# Altium integrated library Altera Cyclone III.IntLib: 225 symbols (part 23 of 50)
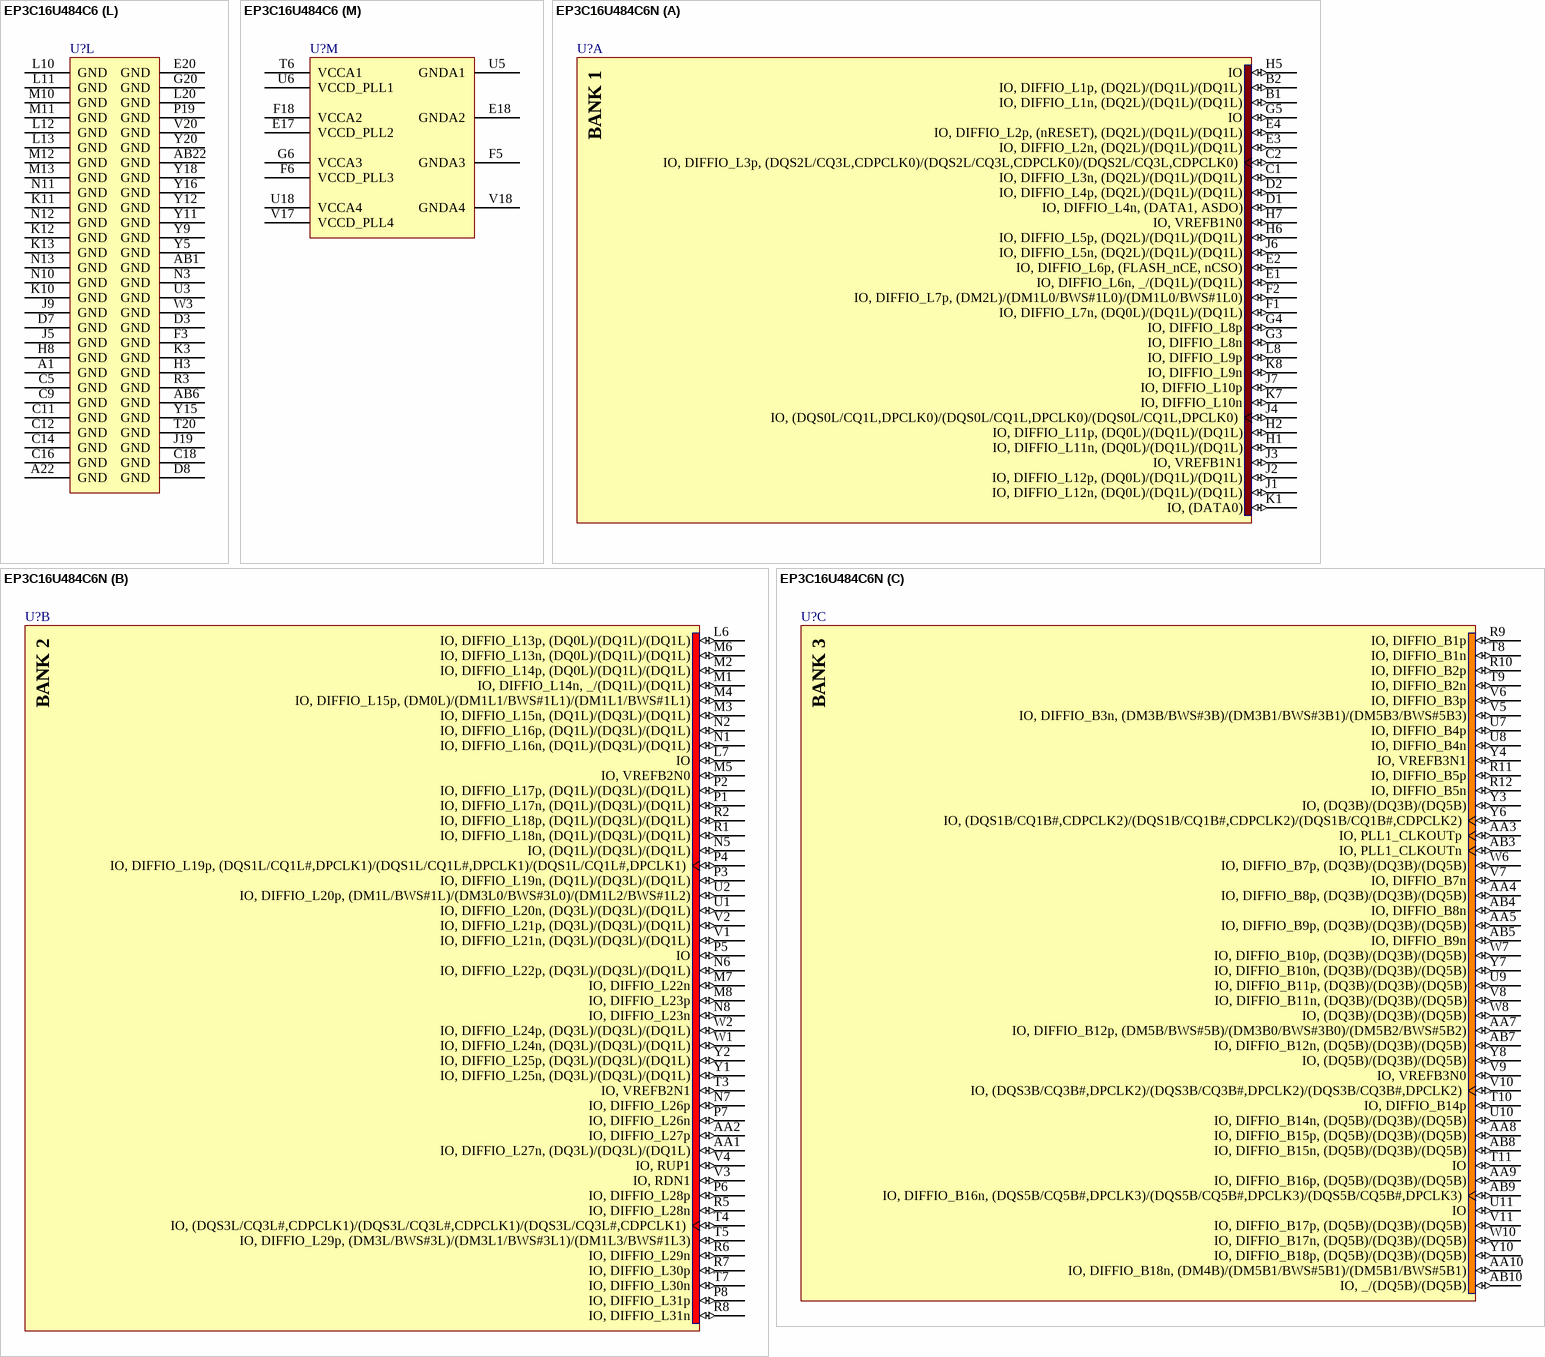
[diagram p512: symbols EP3C16U484C6 to EP3C16U484C6N]

## EP3C16U484C6
designator U?
Cyclone III Family FPGA, 346 I/O Pins, 4 PLLs, 484-Pin UFBGA, Speed Grade 6, Commercial Grade; Published: 14-Mar-2008; DatasheetVersion: ver2.0, May-2008; PackageVersion: ver15.4, Dec-2008; PackageReference: UBGA484; Publisher: Altium Limited; PackageDescription: 484-Ball Ultra FineLine Ball Grid Array (UFBGA484) - Wire Bond; Supplier 1: Digi-Key; Supplier Part Number 1: 544-2475-ND; ComponentLink1Description: Manufacturer Link; ComponentLink1URL: http://www.altera.com/; ComponentLink2Description: Handbook (7.86MB); ComponentLink2URL: http://www.altera.com/literature/hb/cyc3/cyclone3_handbook.pdf; ComponentLink3Description: Packaging Specification; ComponentLink3URL: http://www.altera.com/literature/ds/dspkg.pdf
footprint UBGA484 (BGA, 484-Leads, Body 19x19mm, Pitch 0.8mm)
3D model EP3C16-UBGA484 (484-Ball Ultra FineLine Ball Grid Array (UFBGA484) - Wire Bond)
signal-integrity model EP3C16_U484 (Cyclone III)
part A pins: B1 IO, DIFFIO_L1n, (DQ2L)/(DQ1L)/(DQ1L) (io), B2 IO, DIFFIO_L1p, (DQ2L)/(DQ1L)/(DQ1L) (io), C1 IO, DIFFIO_L3n, (DQ2L)/(DQ1L)/(DQ1L) (io), C2 IO, DIFFIO_L3p, (DQS2L/CQ3L,CDPCLK0)/(DQS2L/CQ3L,CDPCLK0)/(DQS2L/CQ3L,CDPCLK0) (io), D1 IO, DIFFIO_L4n, (DATA1, ASDO) (io), D2 IO, DIFFIO_L4p, (DQ2L)/(DQ1L)/(DQ1L) (io), E1 IO, DIFFIO_L6n, _/(DQ1L)/(DQ1L) (io), E2 IO, DIFFIO_L6p, (FLASH_nCE, nCSO) (io), E3 IO, DIFFIO_L2n, (DQ2L)/(DQ1L)/(DQ1L) (io), E4 IO, DIFFIO_L2p, (nRESET), (DQ2L)/(DQ1L)/(DQ1L) (io), F1 IO, DIFFIO_L7n, (DQ0L)/(DQ1L)/(DQ1L) (io), F2 IO, DIFFIO_L7p, (DM2L)/(DM1L0/BWS#1L0)/(DM1L0/BWS#1L0) (io), G3 IO, DIFFIO_L8n (io), G4 IO, DIFFIO_L8p (io), G5 IO (io), H1 IO, DIFFIO_L11n, (DQ0L)/(DQ1L)/(DQ1L) (io), H2 IO, DIFFIO_L11p, (DQ0L)/(DQ1L)/(DQ1L) (io), H5 IO (io), H6 IO, DIFFIO_L5p, (DQ2L)/(DQ1L)/(DQ1L) (io), H7 IO, VREFB1N0 (io), J1 IO, DIFFIO_L12n, (DQ0L)/(DQ1L)/(DQ1L) (io), J2 IO, DIFFIO_L12p, (DQ0L)/(DQ1L)/(DQ1L) (io), J3 IO, VREFB1N1 (io), J4 IO, (DQS0L/CQ1L,DPCLK0)/(DQS0L/CQ1L,DPCLK0)/(DQS0L/CQ1L,DPCLK0) (io), J6 IO, DIFFIO_L5n, (DQ2L)/(DQ1L)/(DQ1L) (io), J7 IO, DIFFIO_L10p (io), K1 IO, (DATA0) (io), K7 IO, DIFFIO_L10n (io), K8 IO, DIFFIO_L9n (io), L8 IO, DIFFIO_L9p (io)
part B pins: AA1 IO, DIFFIO_L27n, (DQ3L)/(DQ3L)/(DQ1L) (io), AA2 IO, DIFFIO_L27p (io), L6 IO, DIFFIO_L13p, (DQ0L)/(DQ1L)/(DQ1L) (io), L7 IO (io), M1 IO, DIFFIO_L14n, _/(DQ1L)/(DQ1L) (io), M2 IO, DIFFIO_L14p, (DQ0L)/(DQ1L)/(DQ1L) (io), M3 IO, DIFFIO_L15n, (DQ1L)/(DQ3L)/(DQ1L) (io), M4 IO, DIFFIO_L15p, (DM0L)/(DM1L1/BWS#1L1)/(DM1L1/BWS#1L1) (io), M5 IO, VREFB2N0 (io), M6 IO, DIFFIO_L13n, (DQ0L)/(DQ1L)/(DQ1L) (io), M7 IO, DIFFIO_L22n (io), M8 IO, DIFFIO_L23p (io), N1 IO, DIFFIO_L16n, (DQ1L)/(DQ3L)/(DQ1L) (io), N2 IO, DIFFIO_L16p, (DQ1L)/(DQ3L)/(DQ1L) (io), N5 IO, (DQ1L)/(DQ3L)/(DQ1L) (io), N6 IO, DIFFIO_L22p, (DQ3L)/(DQ3L)/(DQ1L) (io), N7 IO, DIFFIO_L26p (io), N8 IO, DIFFIO_L23n (io), P1 IO, DIFFIO_L17n, (DQ1L)/(DQ3L)/(DQ1L) (io), P2 IO, DIFFIO_L17p, (DQ1L)/(DQ3L)/(DQ1L) (io), P3 IO, DIFFIO_L19n, (DQ1L)/(DQ3L)/(DQ1L) (io), P4 IO, DIFFIO_L19p, (DQS1L/CQ1L#,DPCLK1)/(DQS1L/CQ1L#,DPCLK1)/(DQS1L/CQ1L#,DPCLK1) (io), P5 IO (io), P6 IO, DIFFIO_L28p (io), P7 IO, DIFFIO_L26n (io), P8 IO, DIFFIO_L31p (io), R1 IO, DIFFIO_L18n, (DQ1L)/(DQ3L)/(DQ1L) (io), R2 IO, DIFFIO_L18p, (DQ1L)/(DQ3L)/(DQ1L) (io), R5 IO, DIFFIO_L28n (io), R6 IO, DIFFIO_L29n (io), R7 IO, DIFFIO_L30p (io), R8 IO, DIFFIO_L31n (io), T3 IO, VREFB2N1 (io), T4 IO, (DQS3L/CQ3L#,CDPCLK1)/(DQS3L/CQ3L#,CDPCLK1)/(DQS3L/CQ3L#,CDPCLK1) (io), T5 IO, DIFFIO_L29p, (DM3L/BWS#3L)/(DM3L1/BWS#3L1)/(DM1L3/BWS#1L3) (io), T7 IO, DIFFIO_L30n (io), U1 IO, DIFFIO_L20n, (DQ3L)/(DQ3L)/(DQ1L) (io), U2 IO, DIFFIO_L20p, (DM1L/BWS#1L)/(DM3L0/BWS#3L0)/(DM1L2/BWS#1L2) (io), V1 IO, DIFFIO_L21n, (DQ3L)/(DQ3L)/(DQ1L) (io), V2 IO, DIFFIO_L21p, (DQ3L)/(DQ3L)/(DQ1L) (io), V3 IO, RDN1 (io), V4 IO, RUP1 (io), W1 IO, DIFFIO_L24n, (DQ3L)/(DQ3L)/(DQ1L) (io), W2 IO, DIFFIO_L24p, (DQ3L)/(DQ3L)/(DQ1L) (io), Y1 IO, DIFFIO_L25n, (DQ3L)/(DQ3L)/(DQ1L) (io), Y2 IO, DIFFIO_L25p, (DQ3L)/(DQ3L)/(DQ1L) (io)
part C pins: AA3 IO, PLL1_CLKOUTp (io), AA4 IO, DIFFIO_B8p, (DQ3B)/(DQ3B)/(DQ5B) (io), AA5 IO, DIFFIO_B9p, (DQ3B)/(DQ3B)/(DQ5B) (io), AA7 IO, DIFFIO_B12p, (DM5B/BWS#5B)/(DM3B0/BWS#3B0)/(DM5B2/BWS#5B2) (io), AA8 IO, DIFFIO_B15p, (DQ5B)/(DQ3B)/(DQ5B) (io), AA9 IO, DIFFIO_B16p, (DQ5B)/(DQ3B)/(DQ5B) (io), AA10 IO, DIFFIO_B18n, (DM4B)/(DM5B1/BWS#5B1)/(DM5B1/BWS#5B1) (io), AB3 IO, PLL1_CLKOUTn (io), AB4 IO, DIFFIO_B8n (io), AB5 IO, DIFFIO_B9n (io), AB7 IO, DIFFIO_B12n, (DQ5B)/(DQ3B)/(DQ5B) (io), AB8 IO, DIFFIO_B15n, (DQ5B)/(DQ3B)/(DQ5B) (io), AB9 IO, DIFFIO_B16n, (DQS5B/CQ5B#,DPCLK3)/(DQS5B/CQ5B#,DPCLK3)/(DQS5B/CQ5B#,DPCLK3) (io), AB10 IO, _/(DQ5B)/(DQ5B) (io), R9 IO, DIFFIO_B1p (io), R10 IO, DIFFIO_B2p (io), R11 IO, DIFFIO_B5p (io), R12 IO, DIFFIO_B5n (io), T8 IO, DIFFIO_B1n (io), T9 IO, DIFFIO_B2n (io), T10 IO, DIFFIO_B14p (io), T11 IO (io), U7 IO, DIFFIO_B4p (io), U8 IO, DIFFIO_B4n (io), U9 IO, DIFFIO_B11p, (DQ3B)/(DQ3B)/(DQ5B) (io), U10 IO, DIFFIO_B14n, (DQ5B)/(DQ3B)/(DQ5B) (io), U11 IO (io), V5 IO, DIFFIO_B3n, (DM3B/BWS#3B)/(DM3B1/BWS#3B1)/(DM5B3/BWS#5B3) (io), V6 IO, DIFFIO_B3p (io), V7 IO, DIFFIO_B7n (io), V8 IO, DIFFIO_B11n, (DQ3B)/(DQ3B)/(DQ5B) (io), V9 IO, VREFB3N0 (io), V10 IO, (DQS3B/CQ3B#,DPCLK2)/(DQS3B/CQ3B#,DPCLK2)/(DQS3B/CQ3B#,DPCLK2) (io), V11 IO, DIFFIO_B17p, (DQ5B)/(DQ3B)/(DQ5B) (io), W6 IO, DIFFIO_B7p, (DQ3B)/(DQ3B)/(DQ5B) (io), W7 IO, DIFFIO_B10p, (DQ3B)/(DQ3B)/(DQ5B) (io), W8 IO, (DQ3B)/(DQ3B)/(DQ5B) (io), W10 IO, DIFFIO_B17n, (DQ5B)/(DQ3B)/(DQ5B) (io), Y3 IO, (DQ3B)/(DQ3B)/(DQ5B) (io), Y4 IO, VREFB3N1 (io), Y6 IO, (DQS1B/CQ1B#,CDPCLK2)/(DQS1B/CQ1B#,CDPCLK2)/(DQS1B/CQ1B#,CDPCLK2) (io), Y7 IO, DIFFIO_B10n, (DQ3B)/(DQ3B)/(DQ5B) (io), Y8 IO, (DQ5B)/(DQ3B)/(DQ5B) (io), Y10 IO, DIFFIO_B18p, (DQ5B)/(DQ3B)/(DQ5B) (io)
part D pins: AA13 IO, DIFFIO_B19p, (DQ4B)/(DQ5B)/(DQ5B) (io), AA14 IO, DIFFIO_B20p, (DQ4B)/(DQ5B)/(DQ5B) (io), AA15 IO, DIFFIO_B22p, (DQ4B)/(DQ5B)/(DQ5B) (io), AA16 IO, DIFFIO_B24p, (DM2B)/(DM5B0/BWS#5B0)/(DM5B0/BWS#5B0) (io), AA17 IO, DIFFIO_B25p (io), AA18 IO (io), AA19 IO, RUP2 (io), AA20 IO, DIFFIO_B30p, _/(DQ5B)/(DQ5B) (io), AB13 IO, DIFFIO_B19n, (DQ4B)/(DQ5B)/(DQ5B) (io), AB14 IO, DIFFIO_B20n, (DQ4B)/(DQ5B)/(DQ5B) (io), AB15 IO, DIFFIO_B22n, (DQ4B)/(DQ5B)/(DQ5B) (io), AB16 IO, DIFFIO_B24n, (DQ2B)/(DQ5B)/(DQ5B) (io), AB17 IO, DIFFIO_B25n (io), AB18 IO, (DQ2B)/(DQ5B)/(DQ5B) (io), AB19 IO, RDN2 (io), AB20 IO, DIFFIO_B30n, (DQ2B)/(DQ5B)/(DQ5B) (io), R13 IO (io), R14 IO, DIFFIO_B32p (io), R15 IO, DIFFIO_B32n (io), R16 IO, PLL4_CLKOUTn (io), T12 IO, DIFFIO_B23n (io), T14 IO, DIFFIO_B28p (io), T15 IO, DIFFIO_B28n, (DQ2B)/(DQ5B)/(DQ5B) (io), T16 IO, PLL4_CLKOUTp (io), U12 IO, DIFFIO_B23p, (DQ4B)/(DQ5B)/(DQ5B) (io), U13 IO, DIFFIO_B26p (io), U14 IO, DIFFIO_B31n (io), U15 IO, DIFFIO_B31p (io), V12 IO (io), V13 IO, (DQS2B/CQ3B,DPCLK5)/(DQS2B/CQ3B,DPCLK5)/(DQS2B/CQ3B,DPCLK5) (io), V14 IO, DIFFIO_B26n, (DQ2B)/(DQ5B)/(DQ5B) (io), V15 IO, DIFFIO_B27p, (DQ2B)/(DQ5B)/(DQ5B) (io), V16 IO, VREFB4N0 (io), W13 IO, DIFFIO_B21p, (DQ4B)/(DQ5B)/(DQ5B) (io), W14 IO, VREFB4N1 (io), W15 IO, DIFFIO_B27n, (DQ2B)/(DQ5B)/(DQ5B) (io), W17 IO, DIFFIO_B29p, (DQ2B)/(DQ5B)/(DQ5B) (io), Y13 IO, DIFFIO_B21n, (DQS4B/CQ5B,DPCLK4)/(DQS4B/CQ5B,DPCLK4)/(DQS4B/CQ5B,DPCLK4) (io), Y17 IO, DIFFIO_B29n, (DQS0B/CQ1B,CDPCLK3)/(DQS0B/CQ1B,CDPCLK3)/(DQS0B/CQ1B,CDPCLK3) (io)
part E pins: AA21 IO, DIFFIO_R35p, (DM3R/BWS#3R)/(DM3R1/BWS#3R1)/(DM1R3/BWS#1R3) (io), AA22 IO, DIFFIO_R35n (io), M15 IO, DIFFIO_R29n (io), M16 IO (io), M19 IO, DIFFIO_R19p, (DQ1R)/(DQ3R)/(DQ1R) (io), M20 IO, DIFFIO_R19n, (DQ1R)/(DQ3R)/(DQ1R) (io), M21 IO, DIFFIO_R20p, (DQ1R)/(DQ3R)/(DQ1R) (io), M22 IO, DIFFIO_R20n, (DQ1R)/(DQ3R)/(DQ1R) (io), N14 IO (io), N15 IO, DIFFIO_R29p (io), N16 IO (io), N17 IO, DIFFIO_R22n (io), N18 IO, DIFFIO_R22p, (DQS1R/CQ1R#,DPCLK6)/(DQS1R/CQ1R#,DPCLK6)/(DQS1R/CQ1R#,DPCLK6) (io), N19 IO, DIFFIO_R23p (io), N20 IO, DIFFIO_R23n, (DQ1R)/(DQ3R)/(DQ1R) (io), N21 IO, DIFFIO_R21p, (DEV_CLRn) (io), N22 IO, DIFFIO_R21n, (DEV_OE) (io), P14 IO (io), P15 IO, DIFFIO_R30n (io), P16 IO, DIFFIO_R30p (io), P17 IO (io), P20 IO, VREFB5N0 (io), P21 IO, DIFFIO_R24p, (DQ1R)/(DQ3R)/(DQ1R) (io), P22 IO, DIFFIO_R24n, (DQ1R)/(DQ3R)/(DQ1R) (io), R17 IO, VREFB5N1 (io), R18 IO, DIFFIO_R26n (io), R19 IO, DIFFIO_R26p, (DM1R/BWS#1R)/(DM3R0/BWS#3R0)/(DM1R2/BWS#1R2) (io), R20 IO, (DQ3R)/(DQ3R)/(DQ1R) (io), R21 IO, DIFFIO_R25p, (DQ1R)/(DQ3R)/(DQ1R) (io), R22 IO, DIFFIO_R25n, (DQ1R)/(DQ3R)/(DQ1R) (io), T17 IO, RUP3 (io), T18 IO, RDN3 (io), U19 IO, DIFFIO_R32p (io), U20 IO, DIFFIO_R32n, (DQ3R)/(DQ3R)/(DQ1R) (io), U21 IO, DIFFIO_R27p, (DQ3R)/(DQ3R)/(DQ1R) (io), U22 IO, DIFFIO_R27n, (DQ3R)/(DQ3R)/(DQ1R) (io), V21 IO, DIFFIO_R28p, (DQ3R)/(DQ3R)/(DQ1R) (io), V22 IO, DIFFIO_R28n, (DQ3R)/(DQ3R)/(DQ1R) (io), W19 IO, DIFFIO_R34p (io), W20 IO, DIFFIO_R34n, (DQS3R/CQ3R#,CDPCLK4)/(DQS3R/CQ3R#,CDPCLK4)/(DQS3R/CQ3R#,CDPCLK4) (io), W21 IO, DIFFIO_R31p, (DQ3R)/(DQ3R)/(DQ1R) (io), W22 IO, DIFFIO_R31n, (DQ3R)/(DQ3R)/(DQ1R) (io), Y21 IO, DIFFIO_R33p (io), Y22 IO, DIFFIO_R33n, (DQ3R)/(DQ3R)/(DQ1R) (io)
part F pins: B21 IO, DIFFIO_R3p, (PADD21), (DQ2R)/(DQ1R)/(DQ1R) (io), B22 IO, DIFFIO_R3n, (PADD22), (DQ2R)/(DQ1R)/(DQ1R) (io), C20 IO, DIFFIO_R2n, (PADD20), (DQS2R/CQ3R,CDPCLK5)/(DQS2R/CQ3R,CDPCLK5)/(DQS2R/CQ3R,CDPCLK5) (io), C21 IO, DIFFIO_R4p, (DQ2R)/(DQ1R)/(DQ1R) (io), C22 IO, DIFFIO_R4n, (DQ2R)/(DQ1R)/(DQ1R) (io), D20 IO, DIFFIO_R2p (io), D21 IO, DIFFIO_R7p, _/(DQ1R)/(DQ1R) (io), D22 IO, DIFFIO_R7n, (DM2R)/(DM1R0/BWS#1R0)/(DM1R0/BWS#1R0) (io), E21 IO, DIFFIO_R9p, (nOE), _/(DQ1R)/(DQ1R) (io), E22 IO, DIFFIO_R9n, (nWE), (DQ0R)/(DQ1R)/(DQ1R) (io), F17 IO, DIFFIO_R1n, (DQ2R)/(DQ1R)/(DQ1R) (io), F19 IO, DIFFIO_R6p, (RDY), (DQ2R)/(DQ1R)/(DQ1R) (io), F20 IO, DIFFIO_R6n, (nAVD), (DQ2R)/(DQ1R)/(DQ1R) (io), F21 IO, DIFFIO_R11p, (DQ0R)/(DQ1R)/(DQ1R) (io), F22 IO, DIFFIO_R11n, (DQ0R)/(DQ1R)/(DQ1R) (io), G17 IO, DIFFIO_R1p (io), G18 IO, DIFFIO_R5n, (PADD23), (DQ2R)/(DQ1R)/(DQ1R) (io), H16 IO, DIFFIO_R8p (io), H17 IO, DIFFIO_R5p (io), H18 IO, VREFB6N0 (io), H19 IO, DIFFIO_R10p, (DQ0R)/(DQ1R)/(DQ1R) (io), H20 IO, DIFFIO_R10n, (DQ0R)/(DQ1R)/(DQ1R) (io), H21 IO, DIFFIO_R13p, (DQ0R)/(DQ1R)/(DQ1R) (io), H22 IO, DIFFIO_R13n, (DQ0R)/(DQ1R)/(DQ1R) (io), J15 IO (io), J16 IO, DIFFIO_R14n (io), J17 IO, DIFFIO_R8n (io), J18 IO (io), J21 IO, DIFFIO_R15p, (DM0R)/(DM1R1/BWS#1R1)/(DM1R1/BWS#1R1) (io), J22 IO, DIFFIO_R15n, (DQS0R/CQ1R,DPCLK7)/(DQS0R/CQ1R,DPCLK7)/(DQS0R/CQ1R,DPCLK7) (io), K15 IO (io), K16 IO, DIFFIO_R14p (io), K17 IO, DIFFIO_R12n (io), K18 IO, DIFFIO_R12p, (DQ0R)/(DQ1R)/(DQ1R) (io), K19 IO, VREFB6N1 (io), K21 IO, DIFFIO_R16p, (CLKUSR) (io), K22 IO, DIFFIO_R16n, (nCEO) (io), L15 IO, DIFFIO_R18p (io), L16 IO, DIFFIO_R18n (io), L21 IO, DIFFIO_R17p, (CRC_ERROR) (io), L22 IO, DIFFIO_R17n, (INIT_DONE) (io)
part G pins: A13 IO, DIFFIO_T17n, (PADD11), (DQ4T)/(DQ5T)/(DQ5T) (io), A14 IO, DIFFIO_T18n, (PADD9), (DQ4T)/(DQ5T)/(DQ5T) (io), A15 IO, DIFFIO_T20n, (PADD5), (DQ4T)/(DQ5T)/(DQ5T) (io), A16 IO, DIFFIO_T24n, (DM2T)/(DM5T0/BWS#5T0)/(DM5T0/BWS#5T0) (io), A17 IO, DIFFIO_T25n, (PADD1), (DQ2T)/(DQ5T)/(DQ5T) (io), A18 IO, DIFFIO_T27n, (DQ2T)/(DQ5T)/(DQ5T) (io), A19 IO, RDN4 (io), A20 IO, PLL2_CLKOUTn (io), B13 IO, DIFFIO_T17p, (PADD12), (DQS4T/CQ5T,DPCLK9)/(DQS4T/CQ5T,DPCLK9)/(DQS4T/CQ5T,DPCLK9) (io), B14 IO, DIFFIO_T18p, (PADD10), (DQ4T)/(DQ5T)/(DQ5T) (io), B15 IO, DIFFIO_T20p, (PADD6), (DQ4T)/(DQ5T)/(DQ5T) (io), B16 IO, DIFFIO_T24p, (DQ4T)/(DQ5T)/(DQ5T) (io), B17 IO, DIFFIO_T25p, (PADD2), _/(DQ5T)/(DQ5T) (io), B18 IO, DIFFIO_T27p, (PADD0) (io), B19 IO, RUP4 (io), B20 IO, PLL2_CLKOUTp (io), C13 IO, DIFFIO_T19n, (PADD7) (io), C15 IO, VREFB7N1 (io), C17 IO, (DQ2T)/(DQ5T)/(DQ5T) (io), C19 IO, DIFFIO_T29n, (DQ2T)/(DQ5T)/(DQ5T) (io), D13 IO, DIFFIO_T19p, (PADD8), (DQ4T)/(DQ5T)/(DQ5T) (io), D15 IO, DIFFIO_T26n (io), D17 IO, VREFB7N0 (io), D19 IO, DIFFIO_T29p, (DQ2T)/(DQ5T)/(DQ5T) (io), E11 IO, DIFFIO_T16n, (PADD13) (io), E12 IO, _/(DQ5T)/(DQ5T) (io), E13 IO (io), E14 IO, DIFFIO_T23n, (PADD3), (DQ4T)/(DQ5T)/(DQ5T) (io), E15 IO, DIFFIO_T26p, (DQ2T)/(DQ5T)/(DQ5T) (io), E16 IO, DIFFIO_T32p, (DQ2T)/(DQ5T)/(DQ5T) (io), F11 IO, DIFFIO_T16p, (PADD14), (DM4T)/(DM5T1/BWS#5T1)/(DM5T1/BWS#5T1) (io), F12 IO, DIFFIO_T23p (io), F13 IO, DIFFIO_T21p, (PADD4), (DQS2T/CQ3T,DPCLK8)/(DQS2T/CQ3T,DPCLK8)/(DQS2T/CQ3T,DPCLK8) (io), F14 IO, DIFFIO_T30p, (DQS0T/CQ1T,CDPCLK6)/(DQS0T/CQ1T,CDPCLK6)/(DQS0T/CQ1T,CDPCLK6) (io), F15 IO, DIFFIO_T31n, (DQ2T)/(DQ5T)/(DQ5T) (io), F16 IO, DIFFIO_T32n (io), G12 IO, DIFFIO_T21n (io), G13 IO (io), G14 IO (io), G15 IO, DIFFIO_T30n (io), G16 IO, DIFFIO_T31p (io), H12 IO, DIFFIO_T22p (io), H13 IO, DIFFIO_T22n (io), H14 IO, DIFFIO_T28p (io), H15 IO, DIFFIO_T28n (io)
part H pins: A3 IO, DIFFIO_T3n, (DATA10), (DQ3T)/(DQ3T)/(DQ5T) (io), A4 IO, DIFFIO_T5n, (DQ3T)/(DQ3T)/(DQ5T) (io), A5 IO, (DATA5), (DQ3T)/(DQ3T)/(DQ5T) (io), A6 IO, DIFFIO_T10n, (PADD19), (DQ5T)/(DQ3T)/(DQ5T) (io), A7 IO, DIFFIO_T11n, (PADD18), (DQ5T)/(DQ3T)/(DQ5T) (io), A8 IO, DIFFIO_T12n, (DATA2), (DQ5T)/(DQ3T)/(DQ5T) (io), A9 IO, DIFFIO_T13n, (PADD16), (DQ5T)/(DQ3T)/(DQ5T) (io), A10 IO, DIFFIO_T14n, (DQ5T)/(DQ3T)/(DQ5T) (io), B3 IO, DIFFIO_T3p, (DATA11), (DQ3T)/(DQ3T)/(DQ5T) (io), B4 IO, DIFFIO_T5p, (DATA8), (DQ3T)/(DQ3T)/(DQ5T) (io), B5 IO (io), B6 IO, DIFFIO_T10p, (DATA15), (DQ5T)/(DQ3T)/(DQ5T) (io), B7 IO, DIFFIO_T11p, (DATA4), (DQ5T)/(DQ3T)/(DQ5T) (io), B8 IO, DIFFIO_T12p, (DATA3), (DQ5T)/(DQ3T)/(DQ5T) (io), B9 IO, DIFFIO_T13p, (PADD17), (DQS5T/CQ5T#,DPCLK10)/(DQS5T/CQ5T#,DPCLK10)/(DQS5T/CQ5T#,DPCLK10) (io), B10 IO, DIFFIO_T14p, (PADD15) (io), C3 IO, DIFFIO_T2n, (DQ3T)/(DQ3T)/(DQ5T) (io), C4 IO, DIFFIO_T2p, (DATA12), (DQS1T/CQ1T#,CDPCLK7)/(DQS1T/CQ1T#,CDPCLK7)/(DQS1T/CQ1T#,CDPCLK7) (io), C6 IO, (DATA7), (DQ3T)/(DQ3T)/(DQ5T) (io), C7 IO, DIFFIO_T9p, (DATA13), (DM5T/BWS#5T)/(DM3T0/BWS#3T0)/(DM5T2/BWS#5T2) (io), C8 IO, DIFFIO_T9n, (DATA14), (DQS3T/CQ3T#,DPCLK11)/(DQS3T/CQ3T#,DPCLK11)/(DQS3T/CQ3T#,DPCLK11) (io), C10 IO (io), D6 IO, VREFB8N1 (io), D10 IO, DIFFIO_T15n, (DQ5T)/(DQ3T)/(DQ5T) (io), E5 IO, PLL3_CLKOUTp (io), E6 IO, PLL3_CLKOUTn (io), E7 IO (io), E9 IO, VREFB8N0 (io), E10 IO, DIFFIO_T15p (io), F7 IO, DIFFIO_T1n, (DM3T/BWS#3T)/(DM3T1/BWS#3T1)/(DM5T3/BWS#5T3) (io), F8 IO, DIFFIO_T4n, (DATA9), (DQ3T)/(DQ3T)/(DQ5T) (io), F9 IO, DIFFIO_T6n (io), F10 IO, DIFFIO_T6p, (DATA6), (DQ3T)/(DQ3T)/(DQ5T) (io), G7 IO, DIFFIO_T1p (io), G8 IO, DIFFIO_T4p (io), G9 IO, DIFFIO_T8p (io), G10 IO, DIFFIO_T8n (io), G11 IO (io), H9 IO, DIFFIO_T7p (io), H10 IO, DIFFIO_T7n (io), H11 IO (io)
part I pins: A11 CLK10, DIFFCLK_4n (in), A12 CLK8, DIFFCLK_5n (in), AA11 CLK15, DIFFCLK_6p (in), AA12 CLK13, DIFFCLK_7p (in), AB11 CLK14, DIFFCLK_6n (in), AB12 CLK12, DIFFCLK_7n (in), B11 CLK11, DIFFCLK_4p (in), B12 CLK9, DIFFCLK_5p (in), G1 CLK1, DIFFCLK_0n (in), G2 CLK0, DIFFCLK_0p (in), G21 CLK4, DIFFCLK_2p (in), G22 CLK5, DIFFCLK_2n (in), T1 CLK3, DIFFCLK_1n (in), T2 CLK2, DIFFCLK_1p (in), T21 CLK6, DIFFCLK_3p (in), T22 CLK7, DIFFCLK_3n (in)
part J pins: K2 DCLK (io), K5 nCONFIG (in), K6 nSTATUS (io), K20 MSEL3 (in), L1 TMS (in), L2 TCK (in), L3 nCE (in), L4 TDO (out), L5 TDI (in), L17 MSEL2 (in), L18 MSEL1 (in), M17 MSEL0 (in), M18 CONF_DONE (io)
part K pins: A2 VCCIO8 (power), A21 VCCIO7 (power), AA6 VCCIO3 (power), AB2 VCCIO3 (power), AB21 VCCIO4 (power), D4 VCCIO1 (power), D5 VCCIO8 (power), D9 VCCIO8 (power), D11 VCCIO8 (power), D12 VCCIO7 (power), D14 VCCIO7 (power), D16 VCCIO7 (power), D18 VCCIO7 (power), E8 VCCIO8 (power), E19 VCCIO6 (power), F4 VCCIO1 (power), G19 VCCIO6 (power), H4 VCCIO1 (power), J8 VCCINT (power), J10 VCCINT (power), J11 VCCINT (power), J12 VCCINT (power), J13 VCCINT (power), J14 VCCINT (power), J20 VCCIO6 (power), K4 VCCIO1 (power), K9 VCCINT (power), K14 VCCINT (power), L9 VCCINT (power), L14 VCCINT (power), L19 VCCIO6 (power), M9 VCCINT (power), M14 VCCINT (power), N4 VCCIO2 (power), N9 VCCINT (power), P9 VCCINT (power), P10 VCCINT (power), P11 VCCINT (power), P12 VCCINT (power), P13 VCCINT (power), P18 VCCIO5 (power), R4 VCCIO2 (power), T13 VCCINT (power), T19 VCCIO5 (power), U4 VCCIO2 (power), U16 VCCINT (power), U17 VCCINT (power), V19 VCCIO5 (power), W4 VCCIO2 (power), W5 VCCIO3 (power), W9 VCCIO3 (power), W11 VCCIO3 (power), W12 VCCIO4 (power), W16 VCCIO4 (power), W18 VCCIO4 (power), Y14 VCCIO4 (power), Y19 VCCIO5 (power)
part L pins: A1 GND (power), A22 GND (power), AB1 GND (power), AB6 GND (power), AB22 GND (power), C5 GND (power), C9 GND (power), C11 GND (power), C12 GND (power), C14 GND (power), C16 GND (power), C18 GND (power), D3 GND (power), D7 GND (power), D8 GND (power), E20 GND (power), F3 GND (power), G20 GND (power), H3 GND (power), H8 GND (power), J5 GND (power), J9 GND (power), J19 GND (power), K3 GND (power), K10 GND (power), K11 GND (power), K12 GND (power), K13 GND (power), L10 GND (power), L11 GND (power), L12 GND (power), L13 GND (power), L20 GND (power), M10 GND (power), M11 GND (power), M12 GND (power), M13 GND (power), N3 GND (power), N10 GND (power), N11 GND (power), N12 GND (power), N13 GND (power), P19 GND (power), R3 GND (power), T20 GND (power), U3 GND (power), V20 GND (power), W3 GND (power), Y5 GND (power), Y9 GND (power), Y11 GND (power), Y12 GND (power), Y15 GND (power), Y16 GND (power), Y18 GND (power), Y20 GND (power)
part M pins: E17 VCCD_PLL2 (power), E18 GNDA2 (power), F5 GNDA3 (power), F6 VCCD_PLL3 (power), F18 VCCA2 (power), G6 VCCA3 (power), T6 VCCA1 (power), U5 GNDA1 (power), U6 VCCD_PLL1 (power), U18 VCCA4 (power), V17 VCCD_PLL4 (power), V18 GNDA4 (power)
part A text: BANK 1
part B text: BANK 2
part C text: BANK 3
part D text: BANK 4
part E text: BANK 5
part F text: BANK 6
part G text: BANK 7
part H text: BANK 8

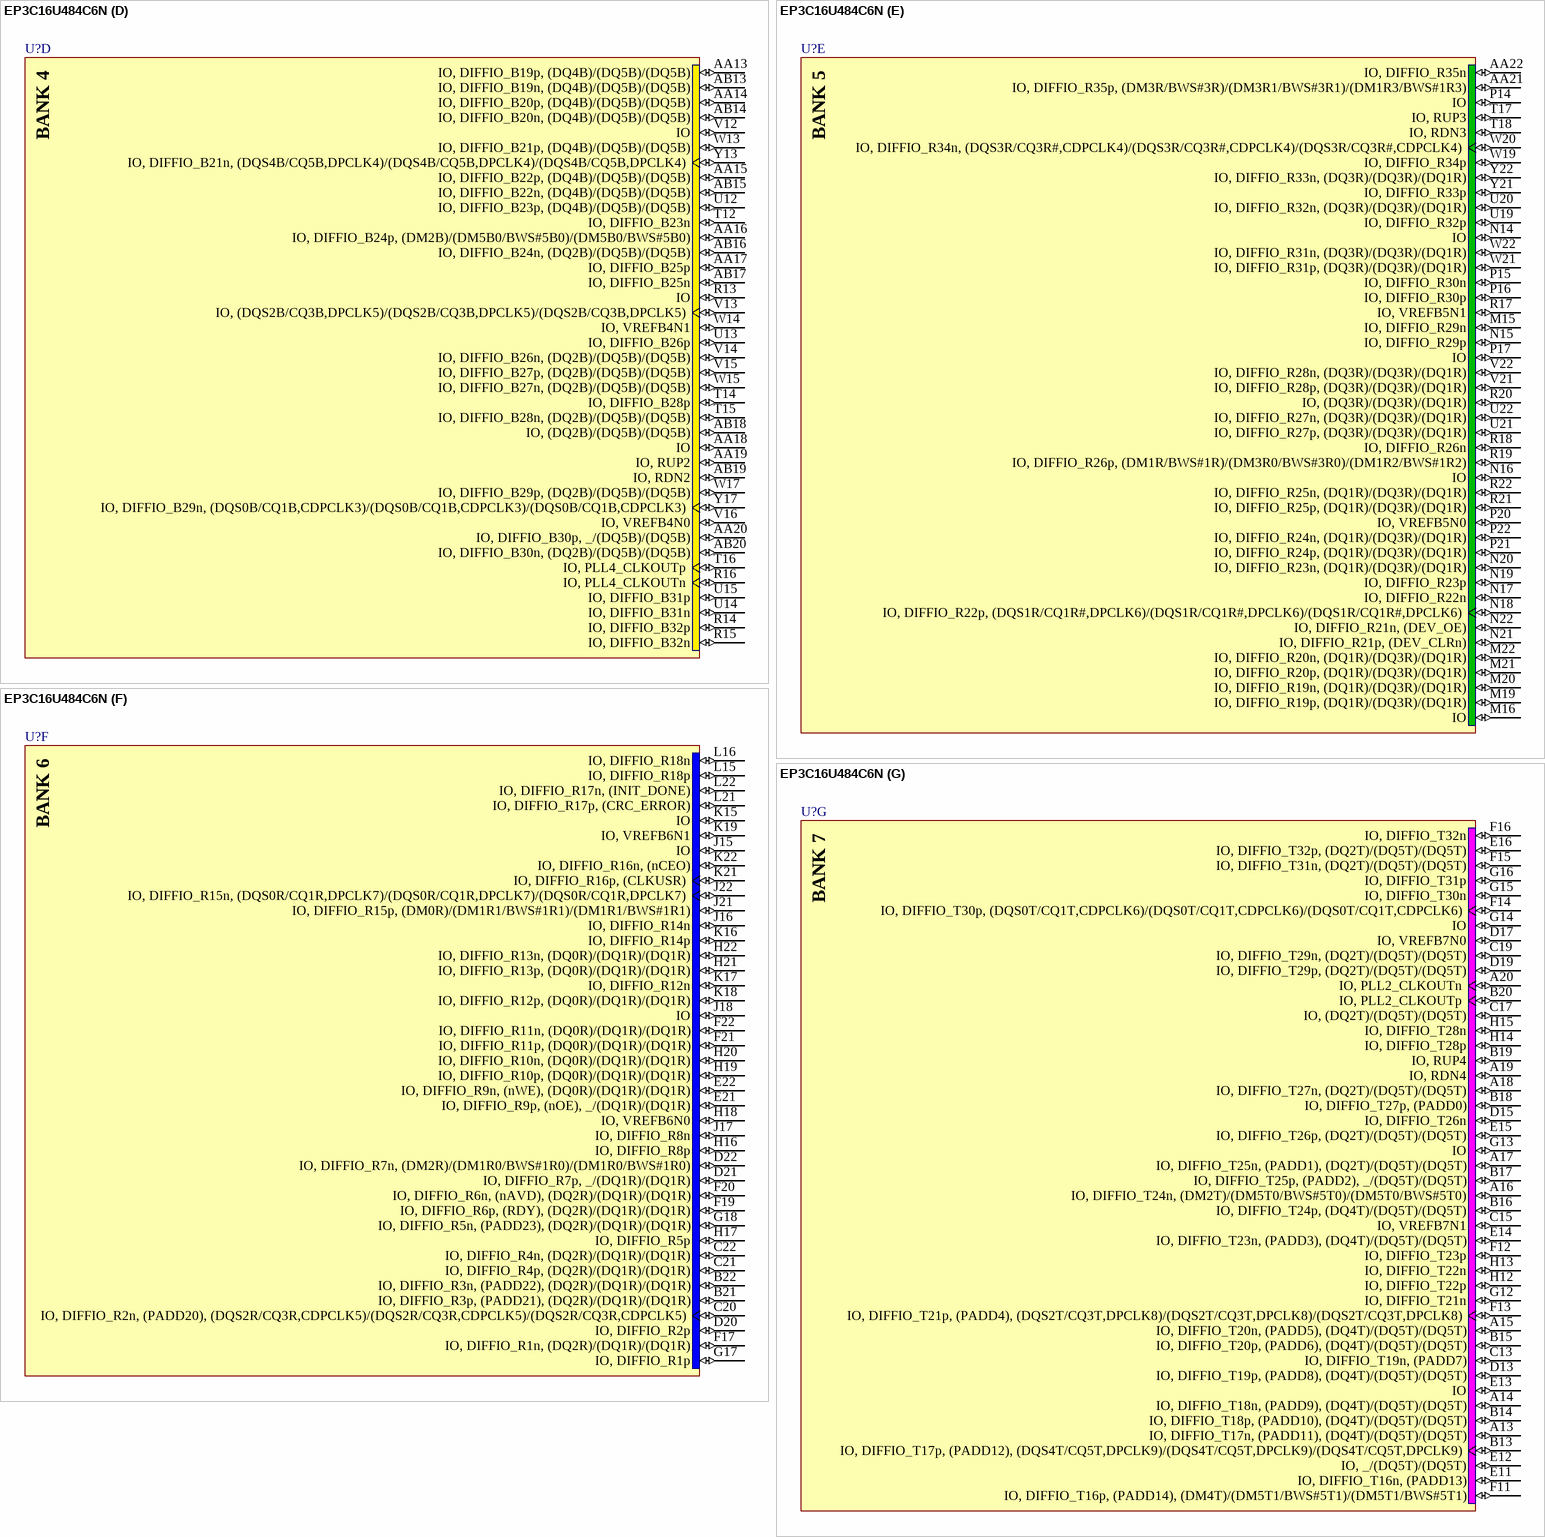
[diagram p113: symbol EP3C16U484C6N]

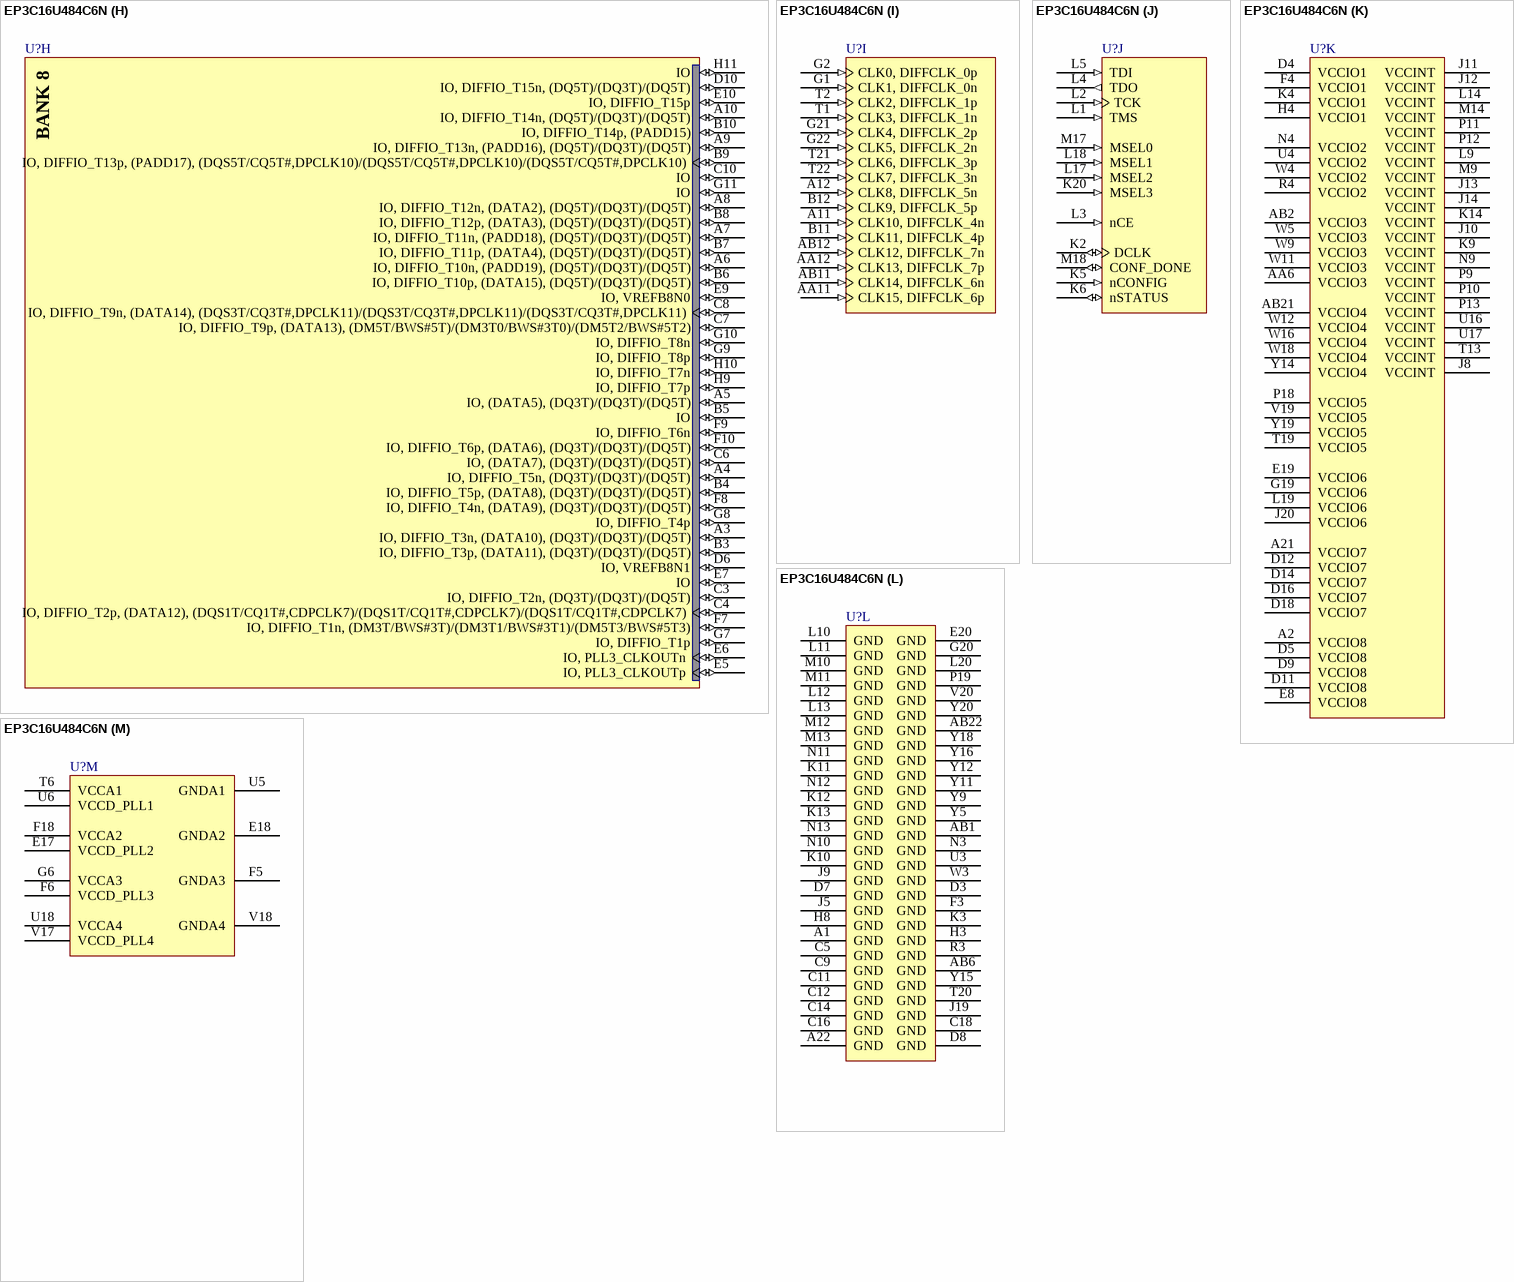
[diagram p114: symbol EP3C16U484C6N]